# Altium footprint library HM55B.PCBLIB: 1 footprints
Each footprint in its own frame and in the unit in brackets; x right, y up, seen from the top. Pads: shape width x height; smd on the part's side, far side on the other; paste and mask are expansions set on the pad; w line width, h text height; cw(c..) or ccw(c..) is an arc to the next point about the centre after c.
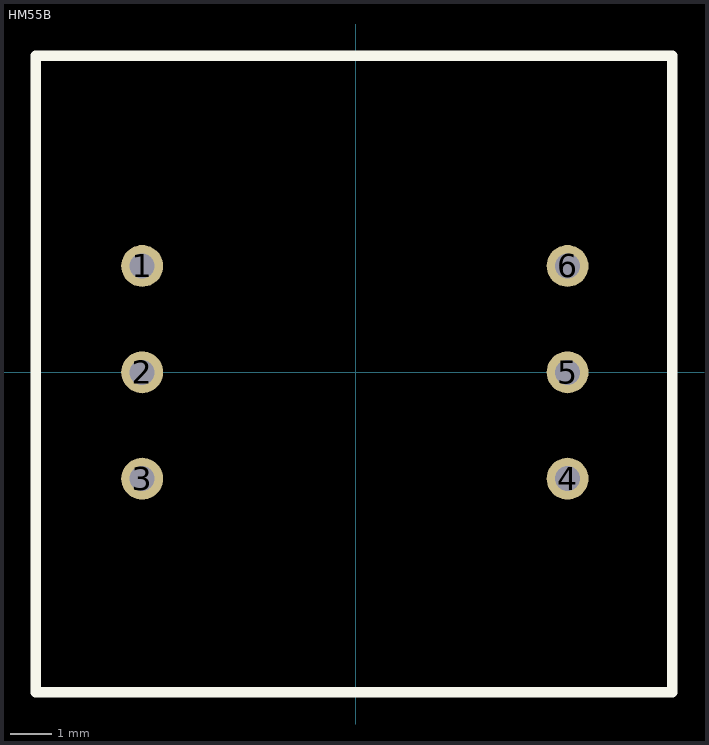
[diagram p0: the footprint, top view; thin cyan lines are the x and y axes]

## HM55B [mm] "HM55B Compass Module"
height 0.25
pads (6):
  round 1 hole 0.599: 1(-5.1,2.54) 2(-5.1,0) 3(-5.1,-2.54) 4(5.06,-2.54) 5(5.06,0) 6(5.06,2.54)
Top Overlay:
  lines w0.254: -7.64,-7.64 7.56,-7.64 7.56,7.56 -7.64,7.56 -7.64,-7.64